# EAGLE library part DF3-08 (library con-hirose)
Single row connector 2mm 8 way
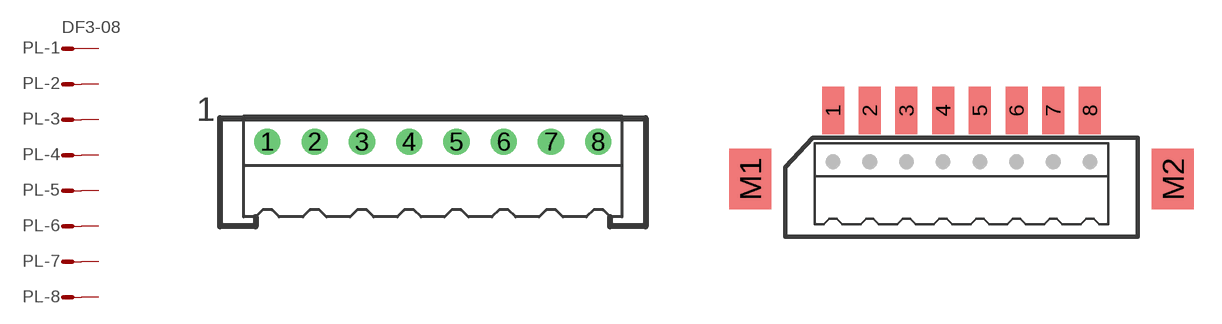
[diagram p5: symbol with the pads of DF3P-08; footprints DF3P-08, DF3DZ-08]

Designator prefix PL; gates -1=MV -2=M -3=M -4=M -5=M -6=M -7=M -8=M

## DF3-08P  [DF3P-08]
1  -1:S  pas
2  -2:S  pas
3  -3:S  pas
4  -4:S  pas
5  -5:S  pas
6  -6:S  pas
7  -7:S  pas
8  -8:S  pas

## DF3-08DZ  [DF3DZ-08]
Pads as for DF3P-08

## DF3-08R  [DF3R-08]
Pads as for DF3P-08

## Footprint DF3P-08 (pad centres in mm)
Single row connector 2mm 8 way
drill 0.6 round: 1 -7,1; 2 -5,1; 3 -3,1; 4 -1,1; 5 1,1; 6 3,1; 7 5,1; 8 7,1

## Footprint DF3DZ-08 (pad centres in mm)
Single row SMT connector 2mm 8 way
smd 1.2 x 2.6: 1 -7,4.1; 2 -5,4.1; 3 -3,4.1; 4 -1,4.1; 5 1,4.1; 6 3,4.1; 7 5,4.1; 8 7,4.1
smd 2.3 x 3.3: M1 -11.52,0.35; M2 11.52,0.35

## Footprint DF3R-08 (pad centres in mm)
Single row connector 2mm 8 way
drill 0.6 round: 1 -7,1.8; 2 -5,1.8; 3 -3,1.8; 4 -1,1.8; 5 1,1.8; 6 3,1.8; 7 5,1.8; 8 7,1.8